# Altium footprint library MORNSUN.PcbLib: 18 footprints (part 1 of 2)
Each footprint in its own frame and in the unit in brackets; x right, y up, seen from the top. Pads: shape width x height; smd on the part's side, far side on the other; paste and mask are expansions set on the pad; w line width, h text height; cw(c..) or ccw(c..) is an arc to the next point about the centre after c.
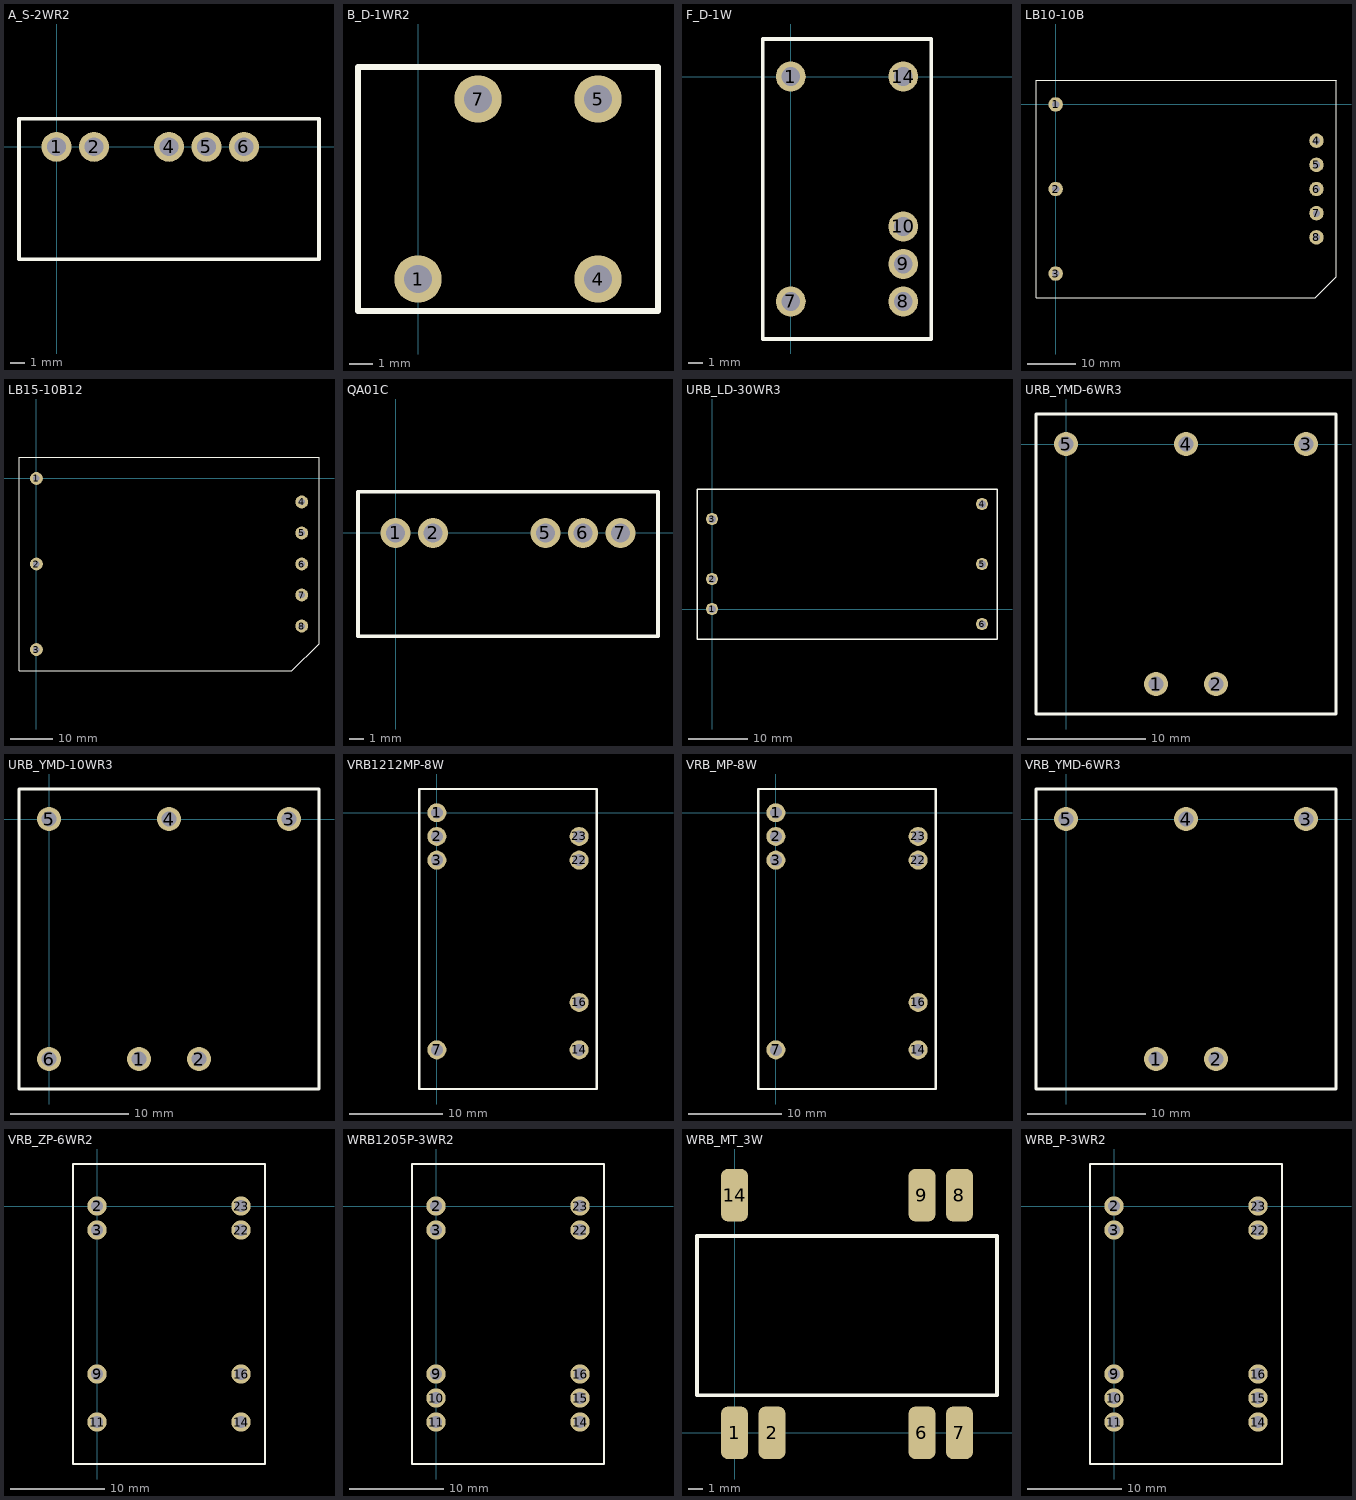
[diagram p0: the footprints below, top view; thin cyan lines are the x and y axes]

## A_S-2WR2 [mil]
pads (5):
  round 80 hole 50: 1(0,0) 2(100,0) 4(300,0) 5(400,0) 6(500,0)
Top Overlay:
  lines w10: -100,-300 -100,75 700,75 700,-300 -100,-300

## B_D-1WR2 [mm]
pads (4):
  round 2 hole 1.2: 1(0,10) 4(7.62,10) 5(7.62,17.62) 7(2.54,17.62)
Top Overlay:
  lines w0.254: -2.54,8.636 10.16,8.636 10.16,18.984 -2.54,18.984 -2.54,8.636

## F_D-1W [mil]
pads (6):
  round 80 hole 50: 1(0,0) 7(0,-600) 8(300,-600) 9(300,-500) 10(300,-400) 14(300,0)
Top Overlay:
  lines w10: -75,-700 375,-700 375,100 -75,100 -75,-700

## LB10-10B [mm]
pads (8):
  round 3 hole 1.5: 1(0,0) 2(0,-17.5) 3(0,-35) 4(54,-7.5) 5(54,-12.5) 6(54,-17.5) 7(54,-22.5) 8(54,-27.5)
Top Overlay:
  lines w0.254: -4.064,5 -4.064,-40 53.726,-40 58.039,-35.687 58.039,4.953 57.992,5 -4,5

## LB15-10B12 [mm]
pads (8):
  round 3 hole 1.5: 1(0,0) 2(0,-20) 3(0,-40) 4(62,-5.5) 5(62,-12.75) 6(62,-20) 7(62,-27.25) 8(62,-34.5)
Top Overlay:
  lines w0.254: -4.064,5 -4.064,-45 59.648,-45 66.039,-38.609 66.039,4.953 ; -4,5 66.039,5

## QA01C [mil] "金升阳SiC 驱动器专用 DC/DC 模块电源"
pads (5):
  round 80 hole 50: 1(0,0) 2(100,0) 5(400,0) 6(500,0) 7(600,0)
Top Overlay:
  lines w10: -100,-275.59 700,-275.59 700,110.24 -100,110.24 -100,-275.59

## URB_LD-30WR3 [mil] "URA_LD-30WR3 & URB_LD-30WR3 系列"
pads (6):
  round 80 hole 50: 1(0,0) 2(0,200) 3(0,600) 4(1800,700) 5(1800,300) 6(1800,-100)
Top Overlay:
  lines w10: -100,-200 1900,-200 1900,800 -100,800 -100,-200

## URB_YMD-6WR3 [mil]
pads (5):
  round 80 hole 50: 1(300,-800) 2(500,-800) 3(800,0) 4(400,0) 5(0,0)
Top Overlay:
  lines w10: -100,-900 900,-900 900,100 -100,100 -100,-900

## URB_YMD-10WR3 [mil]
pads (6):
  round 80 hole 50: 1(300,-800) 2(500,-800) 3(800,0) 4(400,0) 5(0,0) 6(0,-800)
Top Overlay:
  lines w10: -100,-900 -100,100 900,100 900,-900 -100,-900

## VRB1212MP-8W [mil]
pads (8):
  round 80 hole 50: 1(0,0) 2(0,-100) 3(0,-200) 7(0,-1000) 14(600,-1000) 16(600,-800) 22(600,-200) 23(600,-100)
Top Overlay:
  lines w10: -75,-1165 675,-1165 675,100 -75,100 -75,-1165

## VRB_MP-8W [mil]
pads (8):
  round 80 hole 50: 1(0,0) 2(0,-100) 3(0,-200) 7(0,-1000) 14(600,-1000) 16(600,-800) 22(600,-200) 23(600,-100)
Top Overlay:
  lines w10: -75,-1165 -75,100 675,100 675,-1165 -75,-1165

## VRB_YMD-6WR3 [mil]
pads (5):
  round 80 hole 50: 1(300,-800) 2(500,-800) 3(800,0) 4(400,0) 5(0,0)
Top Overlay:
  lines w10: -100,-900 900,-900 900,100 -100,100 -100,-900

## VRB_ZP-6WR2 [mil]
height 68.9
pads (8):
  round 80 hole 50: 2(0,0) 3(0,-100) 9(0,-700) 11(0,-900) 14(600,-900) 16(600,-700) 22(600,-100) 23(600,0)
Top Overlay:
  lines w10: -100,-1075 -100,175 700,175 700,-1075 -100,-1075

## WRB1205P-3WR2 [mil]
height 68.9
pads (10):
  round 80 hole 50: 2(0,0) 3(0,-100) 9(0,-700) 10(0,-800) 11(0,-900) 14(600,-900) 15(600,-800) 16(600,-700) 22(600,-100) 23(600,0)
Top Overlay:
  lines w10: -100,-1075 -100,175 700,175 700,-1075 -100,-1075

## WRB_MT_3W [mil]
pads (7):
  rrect50% 71x140 smd: 1(0,0) 2(100,0) 6(500,0) 7(600,0) 8(600,633.86) 9(500,633.86) 14(0,633.86)
Top Overlay:
  lines w10: -100,100 700,100 700,525 -100,525 -100,100

## WRB_P-3WR2 [mil]
height 68.9
pads (10):
  round 80 hole 50: 2(0,0) 3(0,-100) 9(0,-700) 10(0,-800) 11(0,-900) 14(600,-900) 15(600,-800) 16(600,-700) 22(600,-100) 23(600,0)
Top Overlay:
  lines w10: -100,-1075 700,-1075 700,175 -100,175 -100,-1075